# EAGLE library part P091P (library RGB LED project)
Potentiometer, side adjust, with push-lock, up to 2 gangs
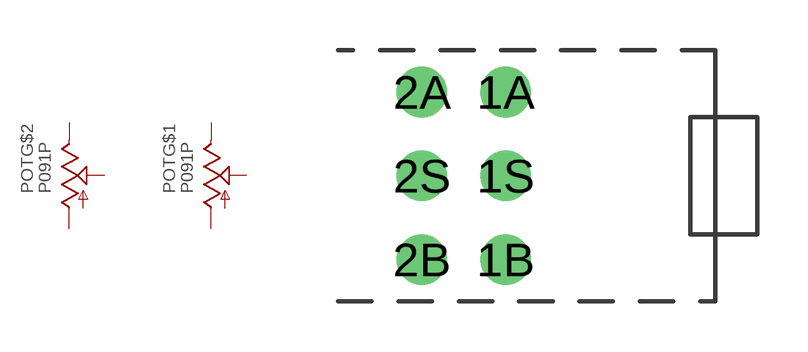
[diagram p0: symbol with the pads of P09XP; footprint P09XP]

Designator prefix POT; gates G$1=POTENTIOMETER G$2=POTENTIOMETER

## P091P  [P09XP]
1A  G$1:A  pas
1B  G$1:B  pas
1S  G$1:S  pas
2A  G$2:A  pas
2B  G$2:B  pas
2S  G$2:S  pas

## Footprint P09XP (pad centres in mm)
p09x potentiometer, side adjust
drill 1: 1A 1.25,2.5; 1B 1.25,-2.5; 1S 1.25,0; 2A -1.25,2.5; 2B -1.25,-2.5; 2S -1.25,0